# Altium footprint library PCB - FUSE - FUSE 2410_6125 2.PcbLib: 1 footprints
Each footprint in its own frame and in the unit in brackets; x right, y up, seen from the top. Pads: shape width x height; smd on the part's side, far side on the other; paste and mask are expansions set on the pad; w line width, h text height; cw(c..) or ccw(c..) is an arc to the next point about the centre after c.
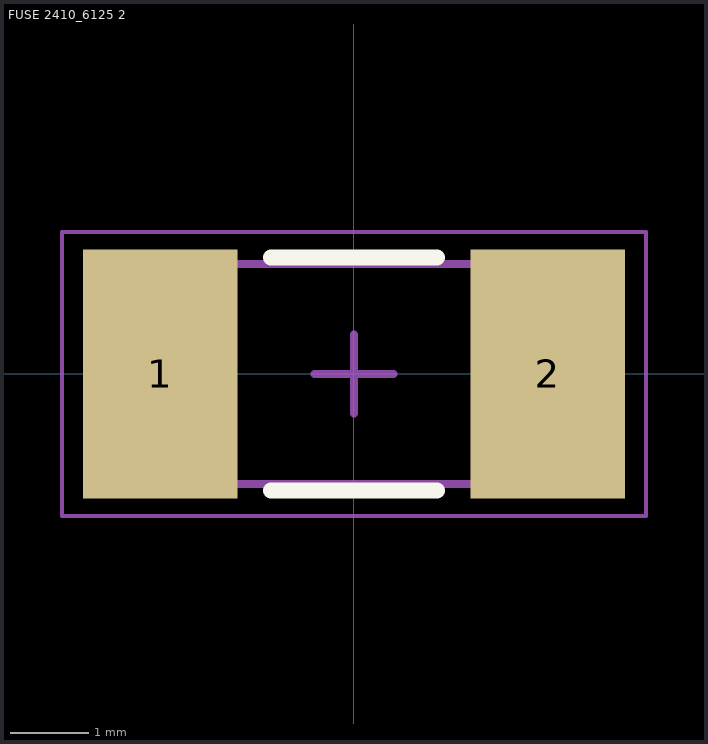
[diagram p0: the footprint, top view; thin cyan lines are the x and y axes]

## FUSE 2410_6125 2 [mm]
height 2.79
pads (2):
  rect 1.96x3.15 smd: 1(-2.455,0) 2(2.455,0)
Top Overlay:
  lines w0.2: -1.05,-1.475 1.05,-1.475 ; -1.05,1.475 1.05,1.475
Mechanical 13:
  lines w0.1: -3.175,-1.395 -3.175,1.395 3.175,1.395 3.175,-1.395 -3.175,-1.395
Mechanical 15:
  lines w0.05: -3.7,-1.8 -3.7,1.8 3.7,1.8 3.7,-1.8 -3.7,-1.8
  lines w0.1: -0.5,0 0.5,0 ; 0,-0.5 0,0.5
3D body "FUSE 2410_6125 2.79MM.step": height 2.79, standoff 0, extent -3.175,-1.395 3.175,1.395